# EAGLE library part ABPDANN015PGAA3 (library ABPDANN015PGAA3)
Board Mount Pressure Sensors BASIC PRESSURE SENSOR Source: Datasheet <https://prod-edam.honeywell.com/content/dam/honeywell-edam/sps/siot/en-us/products/sensors/pressure-sensors/board-mount-pressure-sensors/basic-abp-series/documents/sps-siot-basic-board-mount-pressure-abp-series-datasheet-32305128-ciid-155789.pdf?download=>
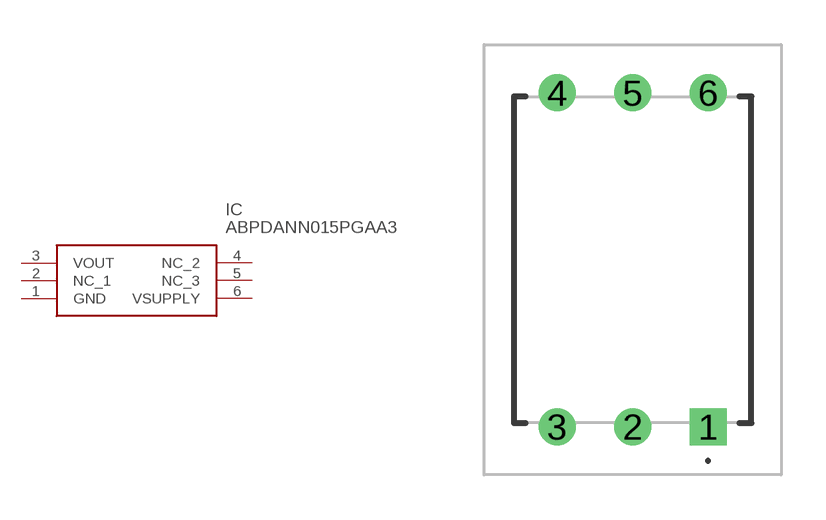
[diagram p0: symbol with the pads of ABPDANN015PGAA3; footprint ABPDANN015PGAA3]

Designator prefix IC

## ABPDANN015PGAA3 (Description: Board Mount Pressure Sensors BASIC PRESSURE SENSOR; Height: 10.63mm; Manufacturer_Name: Honeywell; Manufacturer_Part_Number: ABPDANN015PGAA3)  [ABPDANN015PGAA3]
1  GND
2  NC_1
3  VOUT
4  NC_2
5  NC_3
6  VSUPPLY

## Footprint ABPDANN015PGAA3 (pad centres in mm)
ABPDANN015PGAA3-2
drill 0.73 pad 1.251 square: 1 0,0
drill 0.73 pad 1.251: 2 -2.54,0; 3 -5.08,0; 4 -5.08,11.25; 5 -2.54,11.25; 6 0,11.25